# Altium footprint library OPA.PcbLib: 6 footprints
Each footprint in its own frame and in the unit in brackets; x right, y up, seen from the top. Pads: shape width x height; smd on the part's side, far side on the other; paste and mask are expansions set on the pad; w line width, h text height; cw(c..) or ccw(c..) is an arc to the next point about the centre after c.
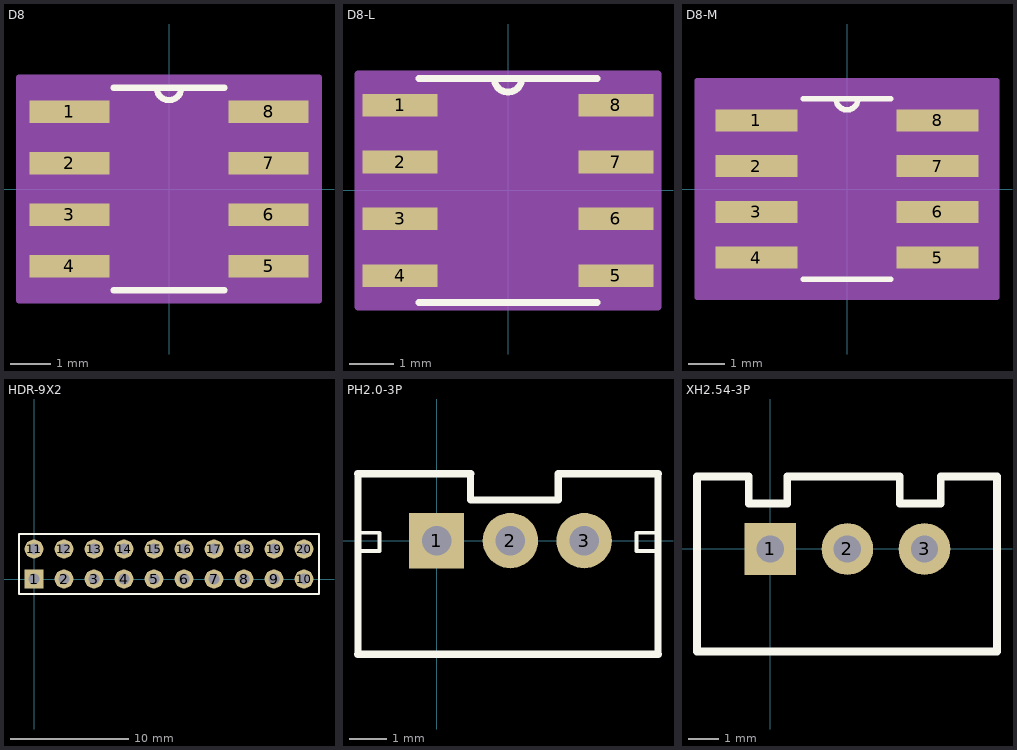
[diagram p0: the footprints below, top view; thin cyan lines are the x and y axes]

## D8 [mil]
pads (8):
  rect 78x22 smd: 1(-97,75) 2(-97,25) 3(-97,-25) 4(-97,-75) 5(97,-75) 6(97,-25) 7(97,25) 8(97,75)
Top Overlay:
  lines w6: -54.08,-98.5 54.08,-98.5 ; -54.08,98.5 54.08,98.5 ; -12,98.5 ccw(c0,98.5) 12,98.5
Mechanical 13:
  lines w0: -12,98.5 ccw(c0,98.5) 12,98.5
Mechanical 15:
  region: 146,-108.5 -146,-108.5 -146,108.5 146,108.5
  lines w6: -146,-108.5 146,-108.5 146,108.5 -146,108.5 -146,-108.5
3D body "D8.stp": height 69.1, standoff 0, extent -122,-98.5 122,98.5

## D8-L [mil]
pads (8):
  rect 66x20 smd: 1(-95,75) 2(-95,25) 3(-95,-25) 4(-95,-75) 5(95,-75) 6(95,-25) 7(95,25) 8(95,75)
Top Overlay:
  lines w6: -78.5,-98.5 78.5,-98.5 ; -78.5,98.5 78.5,98.5 ; -12,98.5 ccw(c0,98.5) 12,98.5
Mechanical 13:
  lines w0: -12,98.5 ccw(c0,98.5) 12,98.5
Mechanical 15:
  region: 132,-102.5 -132,-102.5 -132,102.5 132,102.5
  lines w6: -132,-102.5 132,-102.5 132,102.5 -132,102.5 -132,-102.5
3D body "D8-L.stp": height 69.1, standoff 0, extent -122,-98.5 122,98.5

## D8-M [mil]
pads (8):
  rect 90x24 smd: 1(-99,75) 2(-99,25) 3(-99,-25) 4(-99,-75) 5(99,-75) 6(99,-25) 7(99,25) 8(99,75)
Top Overlay:
  lines w6: -47.73,-98.5 47.73,-98.5 ; -47.73,98.5 47.73,98.5 ; -12,98.5 ccw(c0,98.5) 12,98.5
Mechanical 13:
  lines w0: -12,98.5 ccw(c0,98.5) 12,98.5
Mechanical 15:
  region: 164,-118.5 -164,-118.5 -164,118.5 164,118.5
  lines w6: -164,-118.5 -164,118.5 164,118.5 164,-118.5 -164,-118.5
3D body "D8-M.stp": height 69.1, standoff 0, extent -122,-98.5 122,98.5

## HDR-9X2 [mm] "双排排针，9x2脚"
pads (20):
  rect 1.6x1.6 hole 0.9: 1(0,0)
  round 1.6 hole 0.9: 2(2.54,0) 3(5.08,0) 4(7.62,0) 5(10.16,0) 6(12.7,0) 7(15.24,0) 8(17.78,0) 9(20.32,0) 10(22.86,0) 11(0,2.54) 12(2.54,2.54) 13(5.08,2.54) 14(7.62,2.54) 15(10.16,2.54) 16(12.7,2.54) 17(15.24,2.54) 18(17.78,2.54) 19(20.32,2.54) 20(22.86,2.54)
Top Overlay:
  lines w0.2: -1.27,-1.27 24.13,-1.27 24.13,3.81 -1.27,3.81 -1.27,-1.27
3D body "HDR2.54-1x2P.STEP": height 8.5, standoff -3, extent 16.51,-1.27 19.05,3.81
3D body "HDR2.54-1x2P.STEP": height 8.5, standoff -3, extent 11.43,-1.27 13.97,3.81
3D body "HDR2.54-1x2P.STEP": height 8.5, standoff -3, extent 13.97,-1.27 16.51,3.81
3D body "HDR2.54-1x2P.STEP": height 8.5, standoff -3, extent 3.81,-1.27 6.35,3.81
3D body "HDR2.54-1x2P.STEP": height 8.5, standoff -3, extent 6.35,-1.27 8.89,3.81
3D body "HDR2.54-1x2P.STEP": height 8.5, standoff -3, extent -1.27,-1.27 1.27,3.81
3D body "HDR2.54-1x2P.STEP": height 8.5, standoff -3, extent 1.27,-1.27 3.81,3.81
3D body "HDR2.54-1x2P.STEP": height 8.5, standoff -3, extent 8.89,-1.27 11.43,3.81
3D body "HDR2.54-1x2P.STEP": height 8.5, standoff -3, extent 19.05,-1.27 21.59,3.81
3D body "HDR2.54-1x2P.STEP": height 8.5, standoff -3, extent 21.59,-1.27 24.13,3.81

## PH2.0-3P [mm] "接插件/1A"
height 10
pads (3):
  rect 1.5x1.5 hole 0.8: 1(0,0)
  round 1.5 hole 0.8: 2(2,0) 3(4,0)
Top Overlay:
  lines w0.1: -2.128,-0.284 -1.548,-0.284 -1.548,0.216 -2.128,0.216 ; 6,-0.284 5.42,-0.284 5.42,0.216 6,0.216
  lines w0.2: -2.128,-3.084 -2.128,1.816 ; 0.92,1.816 0.92,1.1 3.302,1.1 3.302,1.816 ; 6,-3.084 6,1.816
  lines w0.203: -2.128,-3.084 6,-3.084 ; -2.128,1.816 0.92,1.816 ; 3.302,1.816 6,1.816
3D body "PH2.0-3P.STEP": height 6.02, standoff -2.98, extent -1.95,-3 5.95,1.7

## XH2.54-3P [mm] "接插件，3P"
pads (3):
  rect 1.7x1.7 hole 0.9: 1(0,0)
  round 1.7 hole 0.9: 2(2.54,0) 3(5.08,0)
Top Overlay:
  lines w0.254: -2.413,-3.378 7.468,-3.378 7.468,2.388 5.613,2.388 5.613,1.5 4.267,1.5 4.267,2.388 0.559,2.388 0.559,1.5 -0.711,1.5 -0.711,2.388 -2.413,2.388 -2.413,-3.378
3D body "XH2.54-3P.STEP": height 7.03, standoff -2.47, extent -2.5,-3.3 7.58,2.4